# EAGLE library part DS1307 (library SteveMarple)
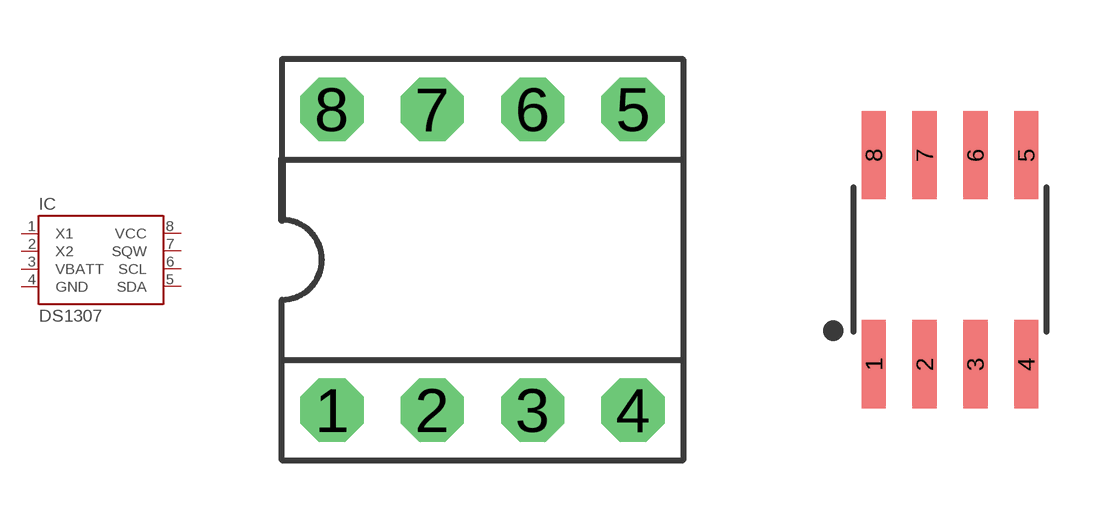
[diagram p1: symbol with the pads of DIL08; footprints DIL08, SO08]

Designator prefix IC

## DS1307DIL08  [DIL08]
1  X1
2  X2
3  VBATT
4  GND
5  SDA
6  SCL
7  SQW
8  VCC

## DS1307SO08  [SO08]
Pads as for DIL08

## DS1307DIL08/SOIC8-OLD  [DIL08_SO08]
1  X1
1@1  X1
2  X2
2@1  X2
3  VBATT
3@1  VBATT
4  GND
4@1  GND
5  SDA
5@1  SDA
6  SCL
6@1  SCL
7  SQW
7@1  SQW
8  VCC
8@1  VCC

## DS1307DIL08/SOIC8  [DIL08-SOIC8]
Pads as for DIL08_SO08

## Footprint DIL08 (pad centres in mm)
drill 0.813 pad 1.6 octagon: 1 -3.81,-3.81; 2 -1.27,-3.81; 3 1.27,-3.81; 4 3.81,-3.81; 5 3.81,3.81; 6 1.27,3.81; 7 -1.27,3.81; 8 -3.81,3.81

## Footprint SO08 (pad centres in mm)
smd 0.61 x 2.21: 1 -1.905,-2.616; 2 -0.635,-2.616; 3 0.635,-2.616; 4 1.905,-2.616; 5 1.905,2.616; 6 0.635,2.616; 7 -0.635,2.616; 8 -1.905,2.616

## Footprint DIL08_SO08 (pad centres in mm)
drill 0.813 pad 1.6 octagon: 1 -3.81,-3.81; 2 -1.27,-3.81; 3 1.27,-3.81; 4 3.81,-3.81; 5 3.81,3.81; 6 1.27,3.81; 7 -1.27,3.81; 8 -3.81,3.81
smd 2.21 x 0.61: 1@1 -7.544,-3.81; 2@1 -7.544,-2.54; 3@1 -7.544,-1.27; 4@1 -7.544,0; 5@1 -12.776,0; 6@1 -12.776,-1.27; 7@1 -12.776,-2.54; 8@1 -12.776,-3.81

## Footprint DIL08-SOIC8 (pad centres in mm)
drill 0.813 pad 1.6 octagon: 1 -3.81,-3.81; 2 -1.27,-3.81; 3 1.27,-3.81; 4 3.81,-3.81; 5 3.81,3.81; 6 1.27,3.81; 7 -1.27,3.81; 8 -3.81,3.81
smd 0.61 x 2.21: 1@1 -1.905,-6.426; 2@1 -0.635,-6.426; 3@1 0.635,-6.426; 4@1 1.905,-6.426; 5@1 1.905,-1.194; 6@1 0.635,-1.194; 7@1 -0.635,-1.194; 8@1 -1.905,-1.194